# EAGLE library part AT88SC25616C (library IC_Memory)
CryptoMemory 256 Kbit Datasheet <http://www.farnell.com/datasheets/1627080.pdf?_ga=2.199647022.1476077003.1582182847-1349604216.1582182847>
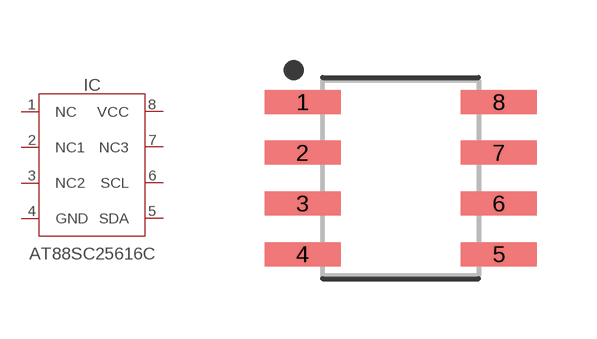
[diagram p3: symbol with the pads of SOIC127P600X144-8; footprint SOIC127P600X144-8]

Designator prefix IC

## AT88SC25616C-SU (CATEGORY: IC_Memory; DESCRIPTION: C EEPROM 256K I2C 5MHZ 8SOIC; MANUFACTURER: Microchip; MPN: AT88SC25616C-SU; OPERATING_TEMP: −40 to +85°C; PART_STATUS: Active; ROHS_COMPLIANT: RoHS3 Compliant; SERIES: AT88SC25616C; SUB_CATEGORY: EEPROM; VALUE: AT88SC25616)  [SOIC127P600X144-8]
1  NC  nc
2  NC1  nc
3  NC2  nc
4  GND  pwr
5  SDA  in
6  SCL  in
7  NC3  nc
8  VCC  pwr

## Footprint SOIC127P600X144-8 (pad centres in mm)
8-SOIC, 1.27 mm pitch, 6.00 mm span, 4.90 X 3.90 X 1.44 mm body 8-pin SOIC package with 1.27 mm pitch, 6.00 mm span with body size 4.90 X 3.90 X 1.44 mm
smd 1.901 x 0.599: 1 -2.455,1.905; 2 -2.455,0.635; 3 -2.455,-0.635; 4 -2.455,-1.905; 5 2.455,-1.905; 6 2.455,-0.635; 7 2.455,0.635; 8 2.455,1.905